# EAGLE library part PS3_DPAD (library IntelMKR_ExpP)
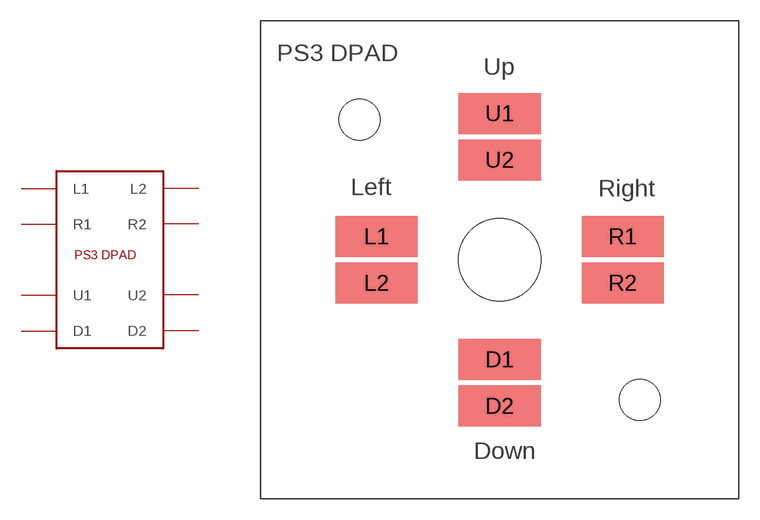
[diagram p3: symbol with the pads of PS3_DPAD; footprint PS3_DPAD]

Designator prefix -

## PS3_DPAD  [PS3_DPAD]
D1  D1
D2  D2
L1  L1
L2  L2
R1  R1
R2  R2
U1  U1
U2  U2

## Footprint PS3_DPAD (pad centres in mm)
smd 6 x 3: D1 0,-7.3; D2 0,-10.7; L1 -9,1.7; L2 -9,-1.7; R1 9,1.7; R2 9,-1.7; U1 0,10.7; U2 0,7.3
hole 6 at 0,0
hole 3 at -10.25,10.25
hole 3 at 10.25,-10.25